# Altium footprint library Sensor_1.PcbLib: 17 footprints (part 1 of 2)
Each footprint in its own frame and in the unit in brackets; x right, y up, seen from the top. Pads: shape width x height; smd on the part's side, far side on the other; paste and mask are expansions set on the pad; w line width, h text height; cw(c..) or ccw(c..) is an arc to the next point about the centre after c.
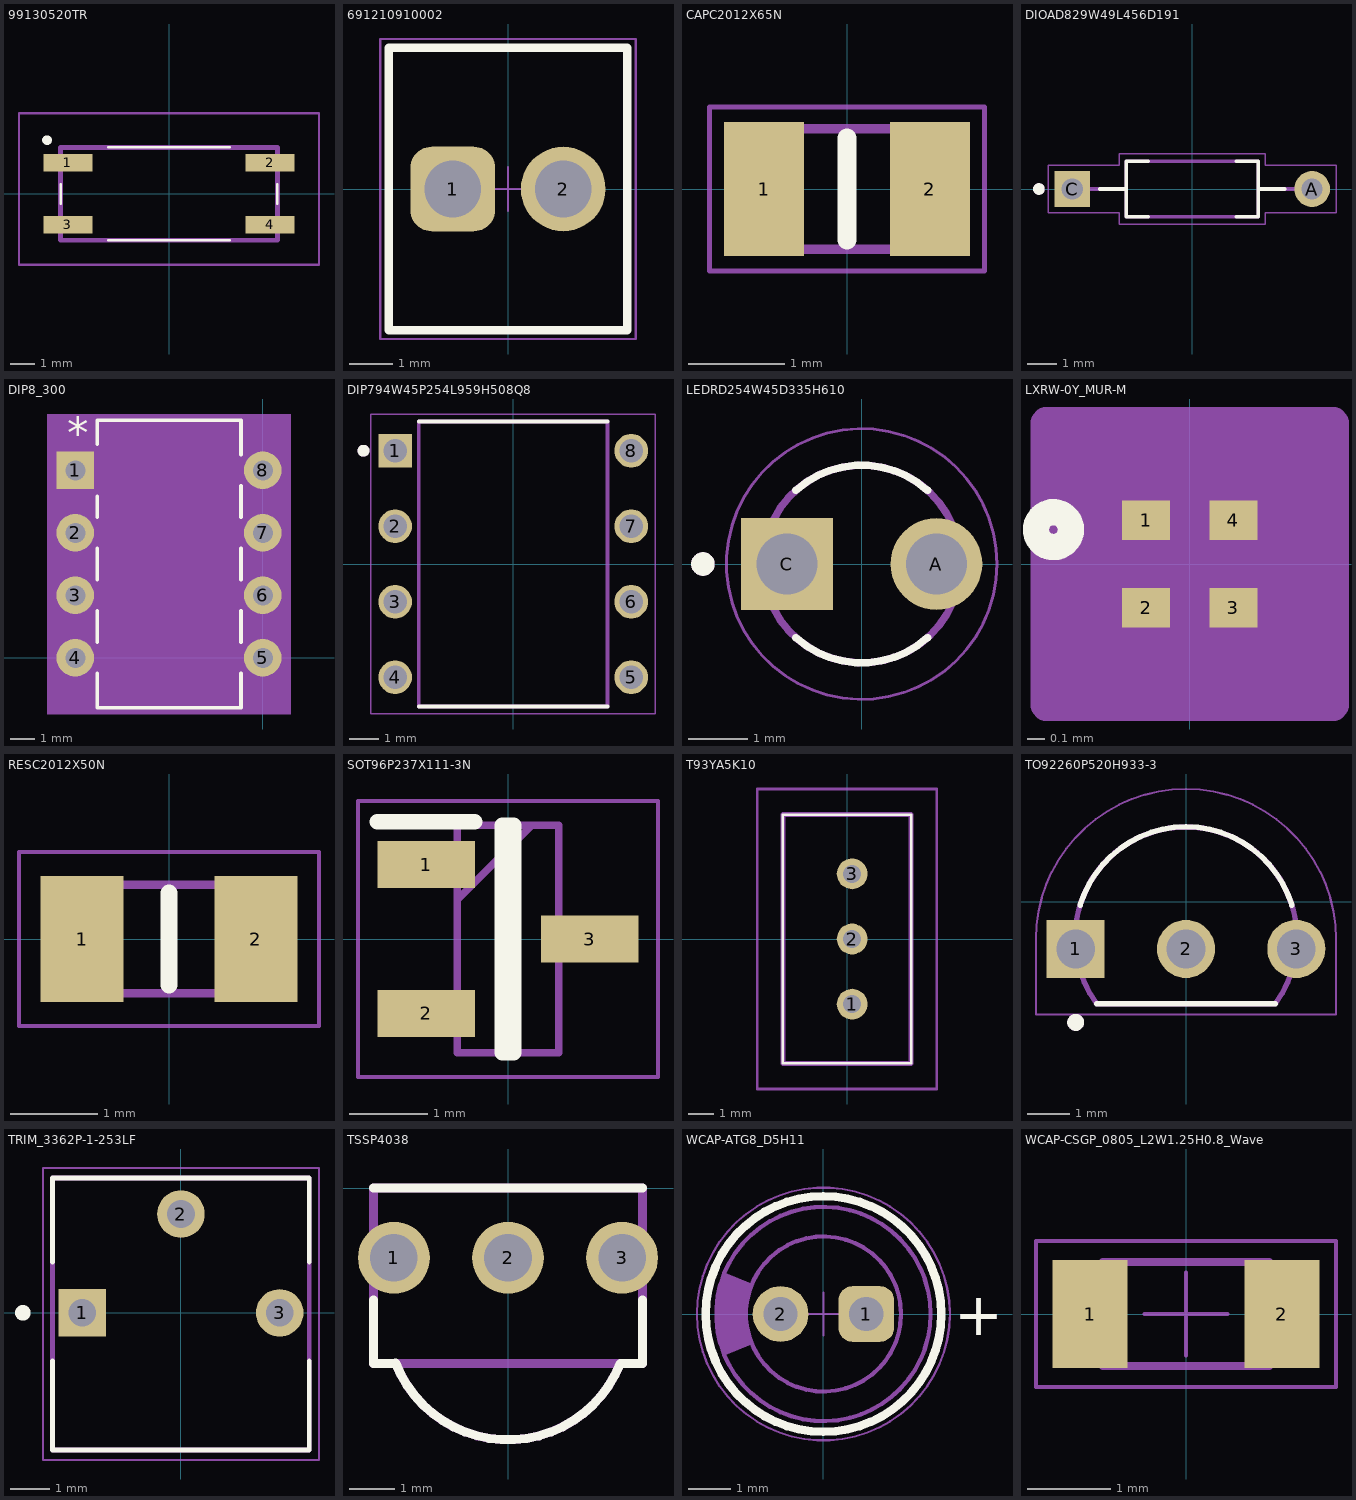
[diagram p0: the footprints below, top view; thin cyan lines are the x and y axes]

## 99130520TR [mm]
pads (4):
  rect 2.01x0.71 smd: 1(-4.145,1.27) 2(4.145,1.27) 3(-4.145,-1.27) 4(4.145,-1.27)
Top Overlay:
  lines w0.1: -4.445,-0.4 -4.445,0.4 ; -2.5,-1.905 2.5,-1.905 ; -2.5,1.905 2.5,1.905 ; 4.445,-0.4 4.445,0.4
  lines w0.2: -5,2.1 ccw(c-5,2.2) -5,2.3 ccw(c-5,2.2) -5,2.1
Mechanical 15:
  lines w0.2: -4.445,-1.905 -4.445,1.905 4.445,1.905 4.445,-1.905 -4.445,-1.905
Mechanical 20:
  lines w0.1: -6.15,-2.905 -6.15,3.3 6.15,3.3 6.15,-2.905 -6.15,-2.905
3D body: height 0.25, standoff 0, extent -7.366,-3.048 7.239,3.429

## 691210910002 [mm] "2,54mm - modular - green - Horizontal wire entry - Cage clamp - 0,8mm2 wires - 02p"
height 8.5
pads (2):
  rrect50% 1.95x1.95 hole 1.3: 1(-1.27,0)
  round 1.95 hole 1.3: 2(1.27,0)
Top Overlay:
  lines w0.2: -2.74,-3.25 -2.74,3.25 2.74,3.25 2.74,-3.25 -2.74,-3.25
Top Courtyard:
  lines w0.05: -0.5,0 0.5,0 ; 0,-0.5 0,0.5 ; -2.94,-3.45 2.94,-3.45 2.94,3.45 -2.94,3.45 -2.94,-3.45
Top 3D Body:
  lines w0.1: -2.74,-3.25 -2.74,3.25 2.74,3.25 2.74,-3.25 -2.74,-3.25
Top Component Outline:
  lines w0.1: -2.74,-3.25 2.74,-3.25 2.74,3.25 -2.74,3.25 -2.74,-3.25
3D body "691210910002.stp": height 8.55, standoff -3.45, extent -2.74,-3.25 2.74,3.25

## CAPC2012X65N [mm]
pads (2):
  rect 0.83x1.39 smd: 1(-0.86,0) 2(0.86,0)
Top Overlay:
  lines w0.2: 0,-0.525 0,0.525
Mechanical 13:
  lines w0.1: -1,-0.625 1,-0.625 1,0.625 -1,0.625 -1,-0.625
Mechanical 15:
  lines w0.05: -1.425,-0.85 1.425,-0.85 1.425,0.85 -1.425,0.85 -1.425,-0.85
3D body "ESR10EZPJ472.stp": height 0.65, standoff 0, extent -1,-0.625 1,0.625

## DIOAD829W49L456D191 [mm]
pads (2):
  round 1.238 hole 0.73: A(4.146,0)
  rect 1.238x1.238 / inner round 1.238 / far side rect 1.238x1.238 hole 0.73: C(-4.146,0)
Top Overlay:
  circle w0.2: c-5.3,0 r0.1
  lines w0.127: -3.2,0 -2.28,0 ; -2.28,-0.96 -1.52,-0.96 ; -2.28,-0.95 -2.28,0 ; -1.52,0.96 -2.28,0.96 -2.28,0 ; 1.52,-0.96 2.28,-0.96 2.28,0 ; 1.52,0.96 2.28,0.96 ; 2.28,0.95 2.28,0 ; 3.2,0 2.28,0
Mechanical 13:
  circle w0.2: c-5.3,0 r0.1
  lines w0.127: -3.581,0 -2.28,0 ; 3.581,0 2.28,0 ; -2.28,0 -2.28,0.96 2.28,0.96 2.28,0 ; -2.28,0 -2.28,-0.96 2.28,-0.96 2.28,0
Mechanical 15:
  lines w0.05: -4.97,-0.815 -2.53,-0.815 -2.53,-1.21 2.53,-1.21 2.53,-0.815 4.97,-0.815 4.97,0.815 2.53,0.815 2.53,1.21 -2.53,1.21 -2.53,0.815 -4.97,0.815 -4.97,-0.815
3D body: height 0.25, standoff 0, extent -5.588,-1.27 5.334,1.27

## DIP8_300 [mil]
pads (8):
  rect 60x60 hole 32: 1(-300,300)
  round 60 hole 32: 2(-300,200) 3(-300,100) 4(-300,0) 5(0,0) 6(0,100) 7(0,200) 8(0,300)
Top Overlay:
  lines w6: -265,-25.15 -265,-80 -35,-80 -35,-25.15 ; -265,25.15 -265,74.85 ; -265,125.15 -265,174.85 ; -265,225.15 -265,257.89 ; -265,342.11 -265,380 -35,380 -35,325.15 ; -35,25.15 -35,74.85 ; -35,125.15 -35,174.85 ; -35,225.15 -35,274.85
  text "*" at -312.5,335 h50
Mechanical 5:
  region: 45,-90 -345,-90 -345,390 45,390
Mechanical 13:
  lines w0: -162,375 ccw(c-150,375) -138,375
  lines w1: -316,-16 -316,16 -260,16 -260,-16 -316,-16 ; -316,84 -316,116 -260,116 -260,84 -316,84 ; -316,184 -316,216 -260,216 -260,184 -316,184 ; -316,284 -316,316 -260,316 -260,284 -316,284 ; -260,-75 -40,-75 -40,375 -260,375 -260,-75 ; -40,-16 -40,16 16,16 16,-16 -40,-16 ; -40,84 -40,116 16,116 16,84 -40,84 ; -40,184 -40,216 16,216 16,184 -40,184 ; -40,284 -40,316 16,316 16,284 -40,284
  text "*" at -262.5,275 h50
Mechanical 15:
  region: -30,-10 40,-10 40,310 -30,310 -30,385 -270,385 -270,310 -340,310 -340,-10 -270,-10 -270,-85 -30,-85
  lines w6: -340,-10 -340,310 -270,310 -270,385 -30,385 -30,310 40,310 40,-10 -30,-10 -30,-85 -270,-85 -270,-10 -340,-10
3D body "DIP8_300.step": height 205.12, standoff -100, extent -315,-75 5,375

## DIP794W45P254L959H508Q8 [mm]
pads (8):
  rect 1.13x1.13 hole 0.78: 1(-3.97,3.81)
  round 1.13 hole 0.78: 2(-3.97,1.27) 3(-3.97,-1.27) 4(-3.97,-3.81) 5(3.97,-3.81) 6(3.97,-1.27) 7(3.97,1.27) 8(3.97,3.81)
Top Overlay:
  circle w0.2: c-5.035,3.81 r0.1
  lines w0.127: -3.175,-4.795 3.175,-4.795 ; -3.175,4.795 3.175,4.795
Mechanical 13:
  circle w0.2: c-5.035,3.81 r0.1
  lines w0.127: -3.175,-4.795 -3.175,4.795 3.175,4.795 3.175,-4.795 -3.175,-4.795
Mechanical 15:
  lines w0.05: -4.785,-5.045 -4.785,5.045 4.785,5.045 4.785,-5.045 -4.785,-5.045

## LEDRD254W45D335H610 [mm]
pads (2):
  round 1.56 hole 1.04: A(1.27,0)
  rect 1.56x1.56 hole 1.04: C(-1.27,0)
Top Overlay:
  circle w0.2: c-2.7,0 r0.1
  lines w0.127: -1.12,-1.25 ccw(c0,-0.006) 1.12,-1.25 ; -1.12,1.25 cw(c0,0.006) 1.12,1.25
Mechanical 13:
  circle w0.127: c0,0 r1.68
  circle w0.2: c-2.7,0 r0.1
Mechanical 15:
  circle w0.05: c0,0 r2.3

## LXRW-0Y_MUR-M [mil]
pads (4):
  rect 11x9 smd paste+0 mask+0: 1(-10,10) 2(-10,-10) 3(10,-10) 4(10,10)
Top Overlay:
  circle w6: c-31.25,7.87 r4
Mechanical 5:
  region: 28.5,-28 -28.5,-28 -28.5,28 28.5,28
Mechanical 13:
  circle w0: c-2.5,7.87 r3
  lines w0: -12,13 ccw(c0,13) 12,13
  lines w1: -13,-13 13,-13 13,13 -13,13 -13,-13
Mechanical 15:
  region: -33,-32.37 -33.5,-32.37 -33.5,32.37 -33,32.37 -33,33 33,33 33,32.37 33.5,32.37 33.5,-32.37 33,-32.37 33,-33 -33,-33
  lines w6: -33.5,-32.37 -33.5,32.37 -33,32.37 -33,33 33,33 33,32.37 33.5,32.37 33.5,-32.37 33,-32.37 33,-33 -33,-33 -33,-32.37 -33.5,-32.37
3D body "LXRW-0Y_MUR.step": height 12.09, standoff 0, extent -12.99,-12.99 12.99,12.99

## RESC2012X50N [mm]
pads (2):
  rect 0.95x1.45 smd: 1(-1,0) 2(1,0)
Top Overlay:
  lines w0.2: 0,-0.525 0,0.525
Mechanical 13:
  lines w0.1: -1.025,-0.625 1.025,-0.625 1.025,0.625 -1.025,0.625 -1.025,-0.625
Mechanical 15:
  lines w0.05: -1.725,-1 1.725,-1 1.725,1 -1.725,1 -1.725,-1
3D body "CRCW08055K60JNEA.stp": height 0.5, standoff 0, extent -1.025,-0.625 1.025,0.625

## SOT96P237X111-3N [mm]
pads (3):
  rect 1.25x0.6 smd: 1(-1.05,0.955) 2(-1.05,-0.955) 3(1.05,0)
Top Overlay:
  lines w0.2: -1.675,1.505 -0.425,1.505 ; -0.075,-1.46 -0.075,1.46 0.075,1.46 0.075,-1.46 -0.075,-1.46
Mechanical 13:
  lines w0.1: -0.65,0.505 0.305,1.46 ; -0.65,-1.46 -0.65,1.46 0.65,1.46 0.65,-1.46 -0.65,-1.46
Mechanical 15:
  lines w0.05: -1.925,-1.77 -1.925,1.77 1.925,1.77 1.925,-1.77 -1.925,-1.77
3D body "MMBFJ309LT1G.stp": height 1.11, standoff 0, extent -1.185,-1.46 1.185,1.46

## T93YA5K10 [mm]
pads (3):
  round 1.2 hole 0.7: 1(0.2,-2.54) 2(0.2,0) 3(0.2,2.54)
Top Overlay:
  lines w0.1: -2.5,-4.85 -2.5,4.85 2.5,4.85 2.5,-4.85 -2.5,-4.85
Mechanical 15:
  lines w0.2: -2.5,-4.85 -2.5,4.85 2.5,4.85 2.5,-4.85 -2.5,-4.85
Mechanical 20:
  lines w0.1: -3.5,-5.85 -3.5,5.85 3.5,5.85 3.5,-5.85 -3.5,-5.85
3D body: height 0.25, standoff 0, extent -6.096,-6.604 6.096,6.477

## TO92260P520H933-3 [mm]
height 9.33
pads (3):
  rect 1.37x1.37 / inner round 1.37 / far side rect 1.37x1.37 hole 0.91: 1(-2.6,-1.112)
  round 1.37 hole 0.91: 2(0,-1.112) 3(2.6,-1.112)
Top Overlay:
  circle w0.2: c-2.6,-2.843 r0.1
  lines w0.127: -2.493,-0.078 cw(c0,-0.841) 2.493,-0.078 ; -2.102,-2.408 2.102,-2.408
Mechanical 13:
  circle w0.2: c-2.6,-2.843 r0.1
  lines w0.127: -2.115,-2.39 cw(c0,-0.853) 2.115,-2.39 ; -2.102,-2.408 2.102,-2.408
Mechanical 15:
  lines w0.05: -3.535,-2.66 3.535,-2.66 3.535,-0.878 ccw(c0,-0.878) -3.535,-0.878 -3.535,-2.66
3D body "step_temp.STEP": height 5.33, standoff -12.18, extent -2.38,-1.43 2.38,2.19

## TRIM_3362P-1-253LF [mil]
pads (3):
  rect 48.11x48.11 hole 28.11: 1(-100,0)
  round 48.11 hole 28.11: 2(0,100) 3(100,0)
Top Overlay:
  circle w7.87: c-160,0 r3.94
  lines w5: -129.92,-138.98 129.92,-138.98 ; -129.92,-138.58 -129.92,-48.62 ; -129.92,51.38 -129.92,136.61 129.92,136.61 129.92,51.38 ; 129.92,-138.58 129.92,-48.62
Mechanical 13:
  lines w5: -129.92,-138.98 129.92,-138.98 129.92,136.61 -129.92,136.61 -129.92,-138.98
Mechanical 15:
  lines w1.97: -139.76,-148.82 139.76,-148.82 139.76,146.46 -139.76,146.46 -139.76,-148.82
3D body "step_temp.STEP": height 25.59, standoff 0, extent -61.02,-31.5 61.02,31.5

## TSSP4038 [mm]
pads (3):
  round 1.6 hole 1.06: 1(-2.54,-1.55) 2(0,-1.55) 3(2.54,-1.55)
Top Overlay:
  lines w0.2: -3,-2.495 -3,-3.9 -2.5,-3.9 ; -3,0 3,0 ; -2.502,-3.897 ccw(c0,-2.917) 2.5,-3.901 ; 2.5,-3.9 3,-3.9 3,-2.495
Mechanical 15:
  lines w0.2: -2.5,-3.901 ccw(c0,-2.916) 2.5,-3.901 ; -3,-3.9 -3,0 3,0 3,-3.9 -3,-3.9
3D body: height 0.25, standoff 0, extent -3.746,-6.244 3.746,0.508

## WCAP-ATG8_D5H11 [mm] "Aluminum Electrolytic Capacitors, 5x11mm"
height 11
pads (2):
  rrect50% 1.3x1.3 hole 0.8: 1(1,0)
  round 1.3 hole 0.8: 2(-1,0)
Top Overlay:
  circle w0.2: c0,0 r2.75
  text "+" at 3.05,-0.5 h1
Top Courtyard:
  circle w0.05: c0,0 r2.95
  lines w0.05: -0.5,0 0.5,0 ; 0,-0.5 0,0.5
Top Designator:
  text ".Designator" at -4.998,-0.333 h1
Top 3D Body:
  circle w0.1: c0,0 r2.5
  circle w0.1: c0,0 r1.81
  region: -2.305,-0.968 -1.668,-0.702 -1.669,-0.701 -1.73,-0.532 -1.801,-0.18 -1.801,0.18 -1.73,0.532 -1.669,0.701 -1.668,0.702 -2.305,0.968 -2.402,0.738 -2.5,0.249 -2.5,-0.249 -2.402,-0.738
Top Component Outline:
  circle w0.1: c0,0 r2.5
  circle w0.1: c0,0 r1.81
  region: -2.305,-0.968 -1.668,-0.702 -1.669,-0.701 -1.73,-0.532 -1.801,-0.18 -1.801,0.18 -1.73,0.532 -1.669,0.701 -1.668,0.702 -2.305,0.968 -2.402,0.738 -2.5,0.249 -2.5,-0.249 -2.402,-0.738
3D body "5x11x2x0.5.stp": height 11.31, standoff -19.91, extent -2.49,-2.5 2.5,2.5

## WCAP-CSGP_0805_L2W1.25H0.8_Wave [mm] "Ceramic Capacitors, body 2x1.25mm"
height 0.9
pads (2):
  rect 0.9x1.3 smd: 1(-1.15,0) 2(1.15,0)
Top Courtyard:
  lines w0.05: -0.5,0 0.5,0 ; 0,-0.5 0,0.5 ; -1.8,-0.875 -1.8,0.875 1.8,0.875 1.8,-0.875 -1.8,-0.875
Top 3D Body:
  lines w0.1: -1,-0.625 1,-0.625 1,0.625 -1,0.625 -1,-0.625
Top Component Outline:
  lines w0.1: -1,-0.625 -1,0.625 1,0.625 1,-0.625 -1,-0.625
3D body "CAPC2012X08N.step": height 0.8, standoff 0, extent -1,-0.625 1,0.625